# EAGLE library part ESP12Q (library esp826612q)
ESP8266 Wifi module 12-Q
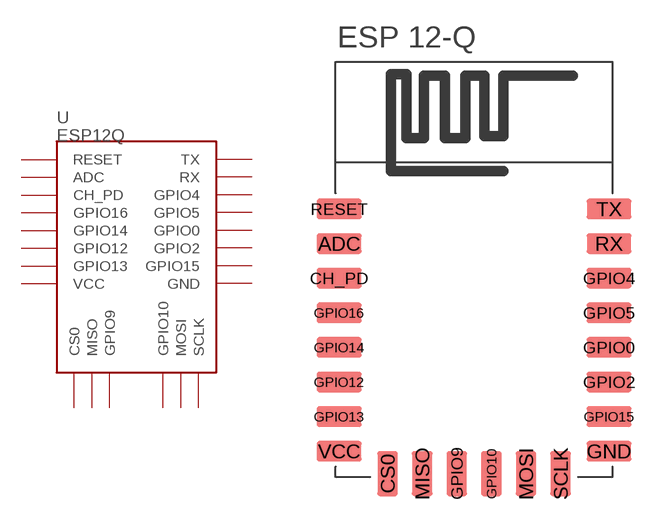
[diagram p0: symbol with the pads of ESP12Q; footprint ESP12Q]

Designator prefix U

## ESP12Q  [ESP12Q]
ADC  ADC
CH_PD  CH_PD
CS0  CS0
GND  GND
GPIO0  GPIO0
GPIO2  GPIO2
GPIO4  GPIO4
GPIO5  GPIO5
GPIO9  GPIO9
GPIO10  GPIO10
GPIO12  GPIO12
GPIO13  GPIO13
GPIO14  GPIO14
GPIO15  GPIO15
GPIO16  GPIO16
MISO  MISO
MOSI  MOSI
RESET  RESET
RX  RX
SCLK  SCLK
TX  TX
VCC  VCC

## Footprint ESP12Q (pad centres in mm)
ESP8266 Module 12
smd 2.6 x 1.2: ADC -7.8,3.5; CH_PD -7.8,1.5; GND 7.8,-8.5; GPIO0 7.8,-2.5; GPIO2 7.8,-4.5; GPIO4 7.8,1.5; GPIO5 7.8,-0.5; GPIO12 -7.8,-4.5; GPIO13 -7.8,-6.5; GPIO14 -7.8,-2.5; GPIO15 7.8,-6.5; GPIO16 -7.8,-0.5; RESET -7.8,5.5; RX 7.8,3.5; TX 7.8,5.5; VCC -7.8,-8.5
smd 1.2 x 2.6: CS0 -5,-9.8; GPIO9 -1,-9.8; GPIO10 1,-9.8; MISO -3,-9.8; MOSI 3,-9.8; SCLK 5,-9.8